# Altium schematic symbol library model.SchLib: 1 symbol
Pins are listed as number, name and electrical type; pins without a type are passive.

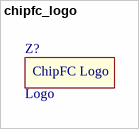
[diagram p0: symbol chipfc_logo]

## chipfc_logo
designator Z?, comment Logo  (no BOM)
footprint chipfc 1
footprint chipfc 2
footprint chipfc 3
text: ChipFC Logo